# Altium schematic symbol library Altium_Box_Header.SchLib: 201 symbols (part 2 of 5)
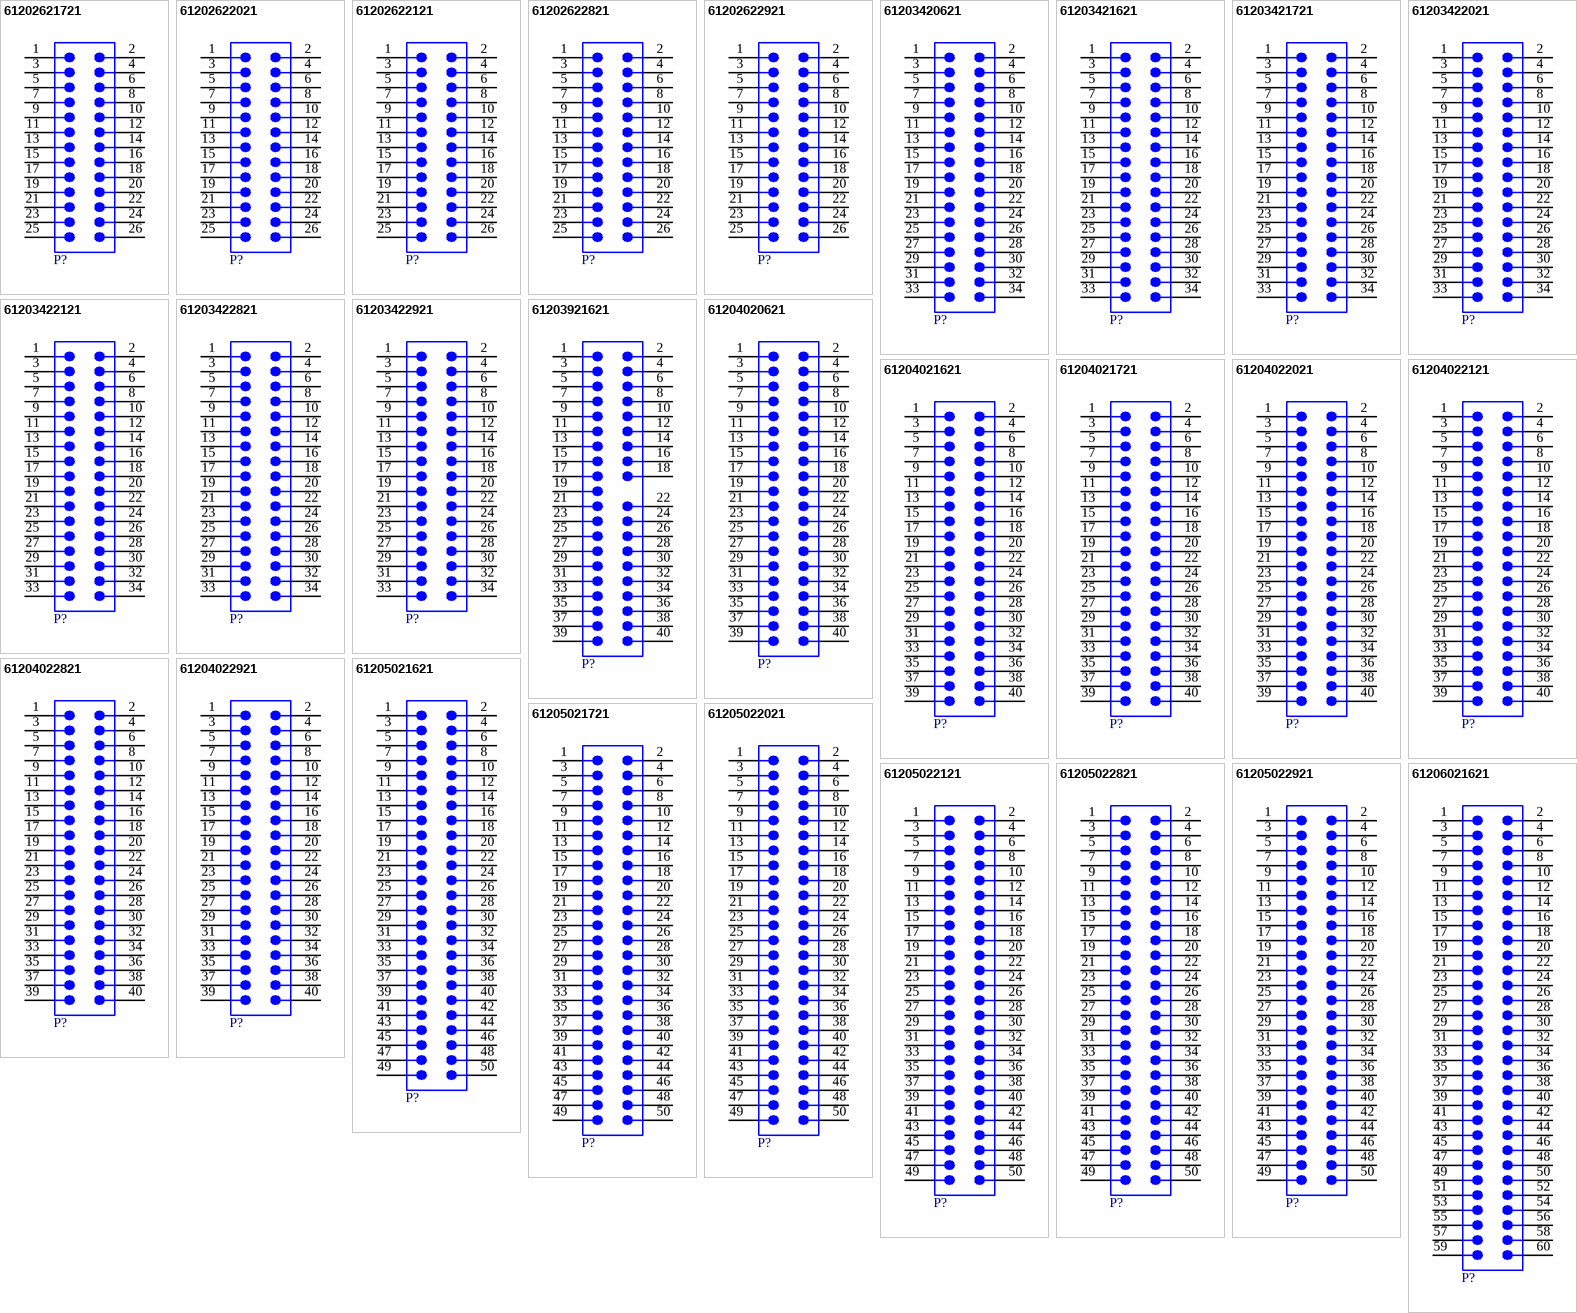
[diagram p6: symbols 61202621721 to 61206021621]

## 61203422021
designator P?  (value not drawn)
WR-BHD Male Box Header, THT Straight, pitch 2.54mm, 2 row, 34 pin; Manufacturer: Wurth Elektronik; Contact Resistance: 20mOhm; Insulation Resistance: 1000MOhm; Rated Current: 3A; Working Voltage: 250V; Withstanding Voltage: 500V; Manufacturer Part Number: 61203422021; Match Code: WR-BHD; ComponentLink1Description: Datasheet; ComponentLink1URL: https://www.we-online.com/redexpert/spec/61203422021?ad; Mount: Through Hole; Operating Temperature Max: 105°C; Operating Temperature Min: -40°C; Packaging: Tray; Length: 62.68mm; Width: 8.3mm; Height: 24.5mm; Gender: Male; Number of Pins: 34; Number of Rows: 2; Orientation: Straight; Pitch: 2.54mm; Supplier 1 URL: N/A; Supplier 2 URL: N/A; Supplier 3 URL: N/A; Supplier 1: Mouser; Supplier 1 Part Number: N/A; Supplier 2: Digi-Key; Supplier 2 Part Number: N/A; Supplier 3: thegioiic; Supplier 3 Part Number: N/A; LCSC Part #: N/A
footprint 61203422021
pins: 1, 2, 3, 4, 5, 6, 7, 8, 9, 10, 11, 12, 13, 14, 15, 16, 17, 18, 19, 20, 21, 22, 23, 24, 25, 26, 27, 28, 29, 30, 31, 32, 33, 34

## 61203422121
designator P?  (value not drawn)
WR-BHD Male Box Header, THT Right Angle, pitch 2.54mm, 2 row, 34 pin; Manufacturer: Wurth Elektronik; Contact Resistance: 20mOhm; Insulation Resistance: 1000MOhm; Rated Current: 3A; Working Voltage: 250V; Withstanding Voltage: 500V; Manufacturer Part Number: 61203422121; Match Code: WR-BHD; ComponentLink1Description: Datasheet; ComponentLink1URL: https://www.we-online.com/redexpert/spec/61203422121?ad; Mount: Through Hole; Operating Temperature Max: 105°C; Operating Temperature Min: -40°C; Packaging: Tray; Length: 62.68mm; Width: 24.5mm; Height: 8.3mm; Gender: Male; Number of Pins: 34; Number of Rows: 2; Orientation: Right Angle; Pitch: 2.54mm; Supplier 1 URL: N/A; Supplier 2 URL: N/A; Supplier 3 URL: N/A; Supplier 1: Mouser; Supplier 1 Part Number: N/A; Supplier 2: Digi-Key; Supplier 2 Part Number: N/A; Supplier 3: thegioiic; Supplier 3 Part Number: N/A; LCSC Part #: N/A
footprint 61203422121
pins: 1, 2, 3, 4, 5, 6, 7, 8, 9, 10, 11, 12, 13, 14, 15, 16, 17, 18, 19, 20, 21, 22, 23, 24, 25, 26, 27, 28, 29, 30, 31, 32, 33, 34

## 61203422821
designator P?  (value not drawn)
WR-BHD Male Box Header, THT Straight, pitch 2.54mm, 2 row, 34 pin; Manufacturer: Wurth Elektronik; Contact Resistance: 20mOhm; Insulation Resistance: 1000MOhm; Rated Current: 3A; Working Voltage: 250V; Withstanding Voltage: 500V; Manufacturer Part Number: 61203422821; Match Code: WR-BHD; ComponentLink1Description: Datasheet; ComponentLink1URL: https://www.we-online.com/redexpert/spec/61203422821?ad; Mount: Through Hole; Operating Temperature Max: 105°C; Operating Temperature Min: -40°C; Packaging: Tray; Length: 62.68mm; Width: 8.3mm; Height: 27.8mm; Gender: Male; Number of Pins: 34; Number of Rows: 2; Orientation: Straight; Pitch: 2.54mm; Supplier 1 URL: N/A; Supplier 2 URL: N/A; Supplier 3 URL: N/A; Supplier 1: Mouser; Supplier 1 Part Number: N/A; Supplier 2: Digi-Key; Supplier 2 Part Number: N/A; Supplier 3: thegioiic; Supplier 3 Part Number: N/A; LCSC Part #: N/A
footprint 61203422821
pins: 1, 2, 3, 4, 5, 6, 7, 8, 9, 10, 11, 12, 13, 14, 15, 16, 17, 18, 19, 20, 21, 22, 23, 24, 25, 26, 27, 28, 29, 30, 31, 32, 33, 34

## 61203422921
designator P?  (value not drawn)
WR-BHD Male Box Header, THT Right Angle, pitch 2.54mm, 2 row, 34 pin; Manufacturer: Wurth Elektronik; Contact Resistance: 20mOhm; Insulation Resistance: 1000MOhm; Rated Current: 3A; Working Voltage: 250V; Withstanding Voltage: 500V; Manufacturer Part Number: 61203422921; Match Code: WR-BHD; ComponentLink1Description: Datasheet; ComponentLink1URL: https://www.we-online.com/redexpert/spec/61203422921?ad; Mount: Through Hole; Operating Temperature Max: 105°C; Operating Temperature Min: -40°C; Packaging: Tray; Length: 62.68mm; Width: 27.8mm; Height: 8.3mm; Gender: Male; Number of Pins: 34; Number of Rows: 2; Orientation: Right Angle; Pitch: 2.54mm; Supplier 1 URL: N/A; Supplier 2 URL: N/A; Supplier 3 URL: N/A; Supplier 1: Mouser; Supplier 1 Part Number: N/A; Supplier 2: Digi-Key; Supplier 2 Part Number: N/A; Supplier 3: thegioiic; Supplier 3 Part Number: N/A; LCSC Part #: N/A
footprint 61203422921
pins: 1, 2, 3, 4, 5, 6, 7, 8, 9, 10, 11, 12, 13, 14, 15, 16, 17, 18, 19, 20, 21, 22, 23, 24, 25, 26, 27, 28, 29, 30, 31, 32, 33, 34

## 61203921621
designator P?  (value not drawn)
WR-BHD Male Box Header, THT Straight, pitch 2.54mm, 2 row, 39 pin; Manufacturer: Wurth Elektronik; Contact Resistance: 20mOhm; Insulation Resistance: 1000MOhm; Rated Current: 3A; Working Voltage: 250V; Withstanding Voltage: 500V; Manufacturer Part Number: 61203921621; Match Code: WR-BHD; ComponentLink1Description: Datasheet; ComponentLink1URL: https://www.we-online.com/redexpert/spec/61203921621?ad; Mount: Through Hole; Operating Temperature Max: 105°C; Operating Temperature Min: -40°C; Packaging: Tray; Length: 58.46mm; Width: 9.1mm; Height: 9.1mm; Gender: Male; Number of Pins: 39; Number of Rows: 2; Orientation: Straight; Pitch: 2.54mm; Supplier 1 URL: N/A; Supplier 2 URL: N/A; Supplier 3 URL: N/A; Supplier 1: Mouser; Supplier 1 Part Number: N/A; Supplier 2: Digi-Key; Supplier 2 Part Number: N/A; Supplier 3: thegioiic; Supplier 3 Part Number: N/A; LCSC Part #: N/A
footprint 61203921621
pins: 1, 2, 3, 4, 5, 6, 7, 8, 9, 10, 11, 12, 13, 14, 15, 16, 17, 18, 19, 21, 22, 23, 24, 25, 26, 27, 28, 29, 30, 31, 32, 33, 34, 35, 36, 37, 38, 39, 40

## 61204020621
designator P?  (value not drawn)
WR-BHD Male Box Header, SMT Straight, pitch 2.54mm, 2 row, 40 pin; Manufacturer: Wurth Elektronik; Contact Resistance: 20mOhm; Insulation Resistance: 1000MOhm; Rated Current: 3A; Working Voltage: 250V; Withstanding Voltage: 500V; Manufacturer Part Number: 61204020621; Match Code: WR-BHD; ComponentLink1Description: Datasheet; ComponentLink1URL: https://www.we-online.com/redexpert/spec/61204020621?ad; Mount: Surface Mount; Operating Temperature Max: 125°C; Operating Temperature Min: -40°C; Packaging: Tube; Length: 58.3mm; Width: 8.8mm; Height: 9.1mm; Gender: Male; Number of Pins: 40; Number of Rows: 2; Orientation: Straight; Pitch: 2.54mm; Supplier 1 URL: N/A; Supplier 2 URL: N/A; Supplier 3 URL: N/A; Supplier 1: Mouser; Supplier 1 Part Number: N/A; Supplier 2: Digi-Key; Supplier 2 Part Number: N/A; Supplier 3: thegioiic; Supplier 3 Part Number: N/A; LCSC Part #: N/A
footprint 61204020621
pins: 1, 2, 3, 4, 5, 6, 7, 8, 9, 10, 11, 12, 13, 14, 15, 16, 17, 18, 19, 20, 21, 22, 23, 24, 25, 26, 27, 28, 29, 30, 31, 32, 33, 34, 35, 36, 37, 38, 39, 40

## 61204021621
designator P?  (value not drawn)
WR-BHD Male Box Header, THT Straight, pitch 2.54mm, 2 row, 40 pin; Manufacturer: Wurth Elektronik; Contact Resistance: 20mOhm; Insulation Resistance: 1000MOhm; Rated Current: 3A; Working Voltage: 250V; Withstanding Voltage: 500V; Manufacturer Part Number: 61204021621; Match Code: WR-BHD; ComponentLink1Description: Datasheet; ComponentLink1URL: https://www.we-online.com/redexpert/spec/61204021621?ad; Mount: Through Hole; Operating Temperature Max: 105°C; Operating Temperature Min: -40°C; Packaging: Tray; Length: 58.46mm; Width: 9.1mm; Height: 9.1mm; Gender: Male; Number of Pins: 40; Number of Rows: 2; Orientation: Straight; Pitch: 2.54mm; Supplier 1 URL: N/A; Supplier 2 URL: N/A; Supplier 3 URL: N/A; Supplier 1: Mouser; Supplier 1 Part Number: N/A; Supplier 2: Digi-Key; Supplier 2 Part Number: N/A; Supplier 3: thegioiic; Supplier 3 Part Number: N/A; LCSC Part #: N/A
footprint 61204021621
pins: 1, 2, 3, 4, 5, 6, 7, 8, 9, 10, 11, 12, 13, 14, 15, 16, 17, 18, 19, 20, 21, 22, 23, 24, 25, 26, 27, 28, 29, 30, 31, 32, 33, 34, 35, 36, 37, 38, 39, 40

## 61204021721
designator P?  (value not drawn)
WR-BHD Male Box Header, THT Right Angle, pitch 2.54mm, 2 row, 40 pin; Manufacturer: Wurth Elektronik; Contact Resistance: 20mOhm; Insulation Resistance: 1000MOhm; Rated Current: 3A; Working Voltage: 250V; Withstanding Voltage: 500V; Manufacturer Part Number: 61204021721; Match Code: WR-BHD; ComponentLink1Description: Datasheet; ComponentLink1URL: https://www.we-online.com/redexpert/spec/61204021721?ad; Mount: Through Hole; Operating Temperature Max: 105°C; Operating Temperature Min: -40°C; Packaging: Tray; Length: 58.46mm; Width: 13.23mm; Height: 9.1mm; Gender: Male; Number of Pins: 40; Number of Rows: 2; Orientation: Right Angle; Pitch: 2.54mm; Supplier 1 URL: N/A; Supplier 2 URL: N/A; Supplier 3 URL: N/A; Supplier 1: Mouser; Supplier 1 Part Number: N/A; Supplier 2: Digi-Key; Supplier 2 Part Number: N/A; Supplier 3: thegioiic; Supplier 3 Part Number: N/A; LCSC Part #: N/A
footprint 61204021721
pins: 1, 2, 3, 4, 5, 6, 7, 8, 9, 10, 11, 12, 13, 14, 15, 16, 17, 18, 19, 20, 21, 22, 23, 24, 25, 26, 27, 28, 29, 30, 31, 32, 33, 34, 35, 36, 37, 38, 39, 40

## 61204022021
designator P?  (value not drawn)
WR-BHD Male Box Header, THT Straight, pitch 2.54mm, 2 row, 40 pin; Manufacturer: Wurth Elektronik; Contact Resistance: 20mOhm; Insulation Resistance: 1000MOhm; Rated Current: 3A; Working Voltage: 250V; Withstanding Voltage: 500V; Manufacturer Part Number: 61204022021; Match Code: WR-BHD; ComponentLink1Description: Datasheet; ComponentLink1URL: https://www.we-online.com/redexpert/spec/61204022021?ad; Mount: Through Hole; Operating Temperature Max: 105°C; Operating Temperature Min: -40°C; Packaging: Tray; Length: 70.3mm; Width: 8.3mm; Height: 24.5mm; Gender: Male; Number of Pins: 40; Number of Rows: 2; Orientation: Straight; Pitch: 2.54mm; Supplier 1 URL: N/A; Supplier 2 URL: N/A; Supplier 3 URL: N/A; Supplier 1: Mouser; Supplier 1 Part Number: N/A; Supplier 2: Digi-Key; Supplier 2 Part Number: N/A; Supplier 3: thegioiic; Supplier 3 Part Number: N/A; LCSC Part #: N/A
footprint 61204022021
pins: 1, 2, 3, 4, 5, 6, 7, 8, 9, 10, 11, 12, 13, 14, 15, 16, 17, 18, 19, 20, 21, 22, 23, 24, 25, 26, 27, 28, 29, 30, 31, 32, 33, 34, 35, 36, 37, 38, 39, 40

## 61204022121
designator P?  (value not drawn)
WR-BHD Male Box Header, THT Right Angle, pitch 2.54mm, 2 row, 40 pin; Manufacturer: Wurth Elektronik; Contact Resistance: 20mOhm; Insulation Resistance: 1000MOhm; Rated Current: 3A; Working Voltage: 250V; Withstanding Voltage: 500V; Manufacturer Part Number: 61204022121; Match Code: WR-BHD; ComponentLink1Description: Datasheet; ComponentLink1URL: https://www.we-online.com/redexpert/spec/61204022121?ad; Mount: Through Hole; Operating Temperature Max: 105°C; Operating Temperature Min: -40°C; Packaging: Tray; Length: 70.3mm; Width: 24.5mm; Height: 8.3mm; Gender: Male; Number of Pins: 40; Number of Rows: 2; Orientation: Right Angle; Pitch: 2.54mm; Supplier 1 URL: N/A; Supplier 2 URL: N/A; Supplier 3 URL: N/A; Supplier 1: Mouser; Supplier 1 Part Number: N/A; Supplier 2: Digi-Key; Supplier 2 Part Number: N/A; Supplier 3: thegioiic; Supplier 3 Part Number: N/A; LCSC Part #: N/A
footprint 61204022121
pins: 1, 2, 3, 4, 5, 6, 7, 8, 9, 10, 11, 12, 13, 14, 15, 16, 17, 18, 19, 20, 21, 22, 23, 24, 25, 26, 27, 28, 29, 30, 31, 32, 33, 34, 35, 36, 37, 38, 39, 40

## 61204022821
designator P?  (value not drawn)
WR-BHD Male Box Header, THT Straight, pitch 2.54mm, 2 row, 40 pin; Manufacturer: Wurth Elektronik; Contact Resistance: 20mOhm; Insulation Resistance: 1000MOhm; Rated Current: 3A; Working Voltage: 250V; Withstanding Voltage: 500V; Manufacturer Part Number: 61204022821; Match Code: WR-BHD; ComponentLink1Description: Datasheet; ComponentLink1URL: https://www.we-online.com/redexpert/spec/61204022821?ad; Mount: Through Hole; Operating Temperature Max: 105°C; Operating Temperature Min: -40°C; Packaging: Tray; Length: 70.3mm; Width: 8.3mm; Height: 27.8mm; Gender: Male; Number of Pins: 40; Number of Rows: 2; Orientation: Straight; Pitch: 2.54mm; Supplier 1 URL: N/A; Supplier 2 URL: N/A; Supplier 3 URL: N/A; Supplier 1: Mouser; Supplier 1 Part Number: N/A; Supplier 2: Digi-Key; Supplier 2 Part Number: N/A; Supplier 3: thegioiic; Supplier 3 Part Number: N/A; LCSC Part #: N/A
footprint 61204022821
pins: 1, 2, 3, 4, 5, 6, 7, 8, 9, 10, 11, 12, 13, 14, 15, 16, 17, 18, 19, 20, 21, 22, 23, 24, 25, 26, 27, 28, 29, 30, 31, 32, 33, 34, 35, 36, 37, 38, 39, 40

## 61204022921
designator P?  (value not drawn)
WR-BHD Male Box Header, THT Right Angle, pitch 2.54mm, 2 row, 40 pin; Manufacturer: Wurth Elektronik; Contact Resistance: 20mOhm; Insulation Resistance: 1000MOhm; Rated Current: 3A; Working Voltage: 250V; Withstanding Voltage: 500V; Manufacturer Part Number: 61204022921; Match Code: WR-BHD; ComponentLink1Description: Datasheet; ComponentLink1URL: https://www.we-online.com/redexpert/spec/61204022921?ad; Mount: Through Hole; Operating Temperature Max: 105°C; Operating Temperature Min: -40°C; Packaging: Tray; Length: 70.3mm; Width: 27.8mm; Height: 8.3mm; Gender: Male; Number of Pins: 40; Number of Rows: 2; Orientation: Right Angle; Pitch: 2.54mm; Supplier 1 URL: N/A; Supplier 2 URL: N/A; Supplier 3 URL: N/A; Supplier 1: Mouser; Supplier 1 Part Number: N/A; Supplier 2: Digi-Key; Supplier 2 Part Number: N/A; Supplier 3: thegioiic; Supplier 3 Part Number: N/A; LCSC Part #: N/A
footprint 61204022921
pins: 1, 2, 3, 4, 5, 6, 7, 8, 9, 10, 11, 12, 13, 14, 15, 16, 17, 18, 19, 20, 21, 22, 23, 24, 25, 26, 27, 28, 29, 30, 31, 32, 33, 34, 35, 36, 37, 38, 39, 40

## 61205021621
designator P?  (value not drawn)
WR-BHD Male Box Header, THT Straight, pitch 2.54mm, 2 row, 50 pin; Manufacturer: Wurth Elektronik; Contact Resistance: 20mOhm; Insulation Resistance: 1000MOhm; Rated Current: 3A; Working Voltage: 250V; Withstanding Voltage: 500V; Manufacturer Part Number: 61205021621; Match Code: WR-BHD; ComponentLink1Description: Datasheet; ComponentLink1URL: https://www.we-online.com/redexpert/spec/61205021621?ad; Mount: Through Hole; Operating Temperature Max: 105°C; Operating Temperature Min: -40°C; Packaging: Tray; Length: 71.16mm; Width: 9.1mm; Height: 9.1mm; Gender: Male; Number of Pins: 50; Number of Rows: 2; Orientation: Straight; Pitch: 2.54mm; Supplier 1 URL: N/A; Supplier 2 URL: N/A; Supplier 3 URL: N/A; Supplier 1: Mouser; Supplier 1 Part Number: N/A; Supplier 2: Digi-Key; Supplier 2 Part Number: N/A; Supplier 3: thegioiic; Supplier 3 Part Number: N/A; LCSC Part #: N/A
footprint 61205021621
pins: 1, 2, 3, 4, 5, 6, 7, 8, 9, 10, 11, 12, 13, 14, 15, 16, 17, 18, 19, 20, 21, 22, 23, 24, 25, 26, 27, 28, 29, 30, 31, 32, 33, 34, 35, 36, 37, 38, 39, 40, 41, 42, 43, 44, 45, 46, 47, 48, 49, 50

## 61205021721
designator P?  (value not drawn)
WR-BHD Male Box Header, THT Right Angle, pitch 2.54mm, 2 row, 50 pin; Manufacturer: Wurth Elektronik; Contact Resistance: 20mOhm; Insulation Resistance: 1000MOhm; Rated Current: 3A; Working Voltage: 250V; Withstanding Voltage: 500V; Manufacturer Part Number: 61205021721; Match Code: WR-BHD; ComponentLink1Description: Datasheet; ComponentLink1URL: https://www.we-online.com/redexpert/spec/61205021721?ad; Mount: Through Hole; Operating Temperature Max: 105°C; Operating Temperature Min: -40°C; Packaging: Tray; Length: 71.16mm; Width: 13.23mm; Height: 9.1mm; Gender: Male; Number of Pins: 50; Number of Rows: 2; Orientation: Right Angle; Pitch: 2.54mm; Supplier 1 URL: N/A; Supplier 2 URL: N/A; Supplier 3 URL: N/A; Supplier 1: Mouser; Supplier 1 Part Number: N/A; Supplier 2: Digi-Key; Supplier 2 Part Number: N/A; Supplier 3: thegioiic; Supplier 3 Part Number: N/A; LCSC Part #: N/A
footprint 61205021721
pins: 1, 2, 3, 4, 5, 6, 7, 8, 9, 10, 11, 12, 13, 14, 15, 16, 17, 18, 19, 20, 21, 22, 23, 24, 25, 26, 27, 28, 29, 30, 31, 32, 33, 34, 35, 36, 37, 38, 39, 40, 41, 42, 43, 44, 45, 46, 47, 48, 49, 50

## 61205022021
designator P?  (value not drawn)
WR-BHD Male Box Header, THT Straight, pitch 2.54mm, 2 row, 50 pin; Manufacturer: Wurth Elektronik; Contact Resistance: 20mOhm; Insulation Resistance: 1000MOhm; Rated Current: 3A; Working Voltage: 250V; Withstanding Voltage: 500V; Manufacturer Part Number: 61205022021; Match Code: WR-BHD; ComponentLink1Description: Datasheet; ComponentLink1URL: https://www.we-online.com/redexpert/spec/61205022021?ad; Mount: Through Hole; Operating Temperature Max: 105°C; Operating Temperature Min: -40°C; Packaging: Tray; Length: 83mm; Width: 8.3mm; Height: 24.5mm; Gender: Male; Number of Pins: 50; Number of Rows: 2; Orientation: Straight; Pitch: 2.54mm; Supplier 1 URL: N/A; Supplier 2 URL: N/A; Supplier 3 URL: N/A; Supplier 1: Mouser; Supplier 1 Part Number: N/A; Supplier 2: Digi-Key; Supplier 2 Part Number: N/A; Supplier 3: thegioiic; Supplier 3 Part Number: N/A; LCSC Part #: N/A
footprint 61205022021
pins: 1, 2, 3, 4, 5, 6, 7, 8, 9, 10, 11, 12, 13, 14, 15, 16, 17, 18, 19, 20, 21, 22, 23, 24, 25, 26, 27, 28, 29, 30, 31, 32, 33, 34, 35, 36, 37, 38, 39, 40, 41, 42, 43, 44, 45, 46, 47, 48, 49, 50

## 61205022121
designator P?  (value not drawn)
WR-BHD Male Box Header, THT Right Angle, pitch 2.54mm, 2 row, 50 pin; Manufacturer: Wurth Elektronik; Contact Resistance: 20mOhm; Insulation Resistance: 1000MOhm; Rated Current: 3A; Working Voltage: 250V; Withstanding Voltage: 500V; Manufacturer Part Number: 61205022121; Match Code: WR-BHD; ComponentLink1Description: Datasheet; ComponentLink1URL: https://www.we-online.com/redexpert/spec/61205022121?ad; Mount: Through Hole; Operating Temperature Max: 105°C; Operating Temperature Min: -40°C; Packaging: Tray; Length: 83mm; Width: 24.5mm; Height: 8.3mm; Gender: Male; Number of Pins: 50; Number of Rows: 2; Orientation: Right Angle; Pitch: 2.54mm; Supplier 1 URL: N/A; Supplier 2 URL: N/A; Supplier 3 URL: N/A; Supplier 1: Mouser; Supplier 1 Part Number: N/A; Supplier 2: Digi-Key; Supplier 2 Part Number: N/A; Supplier 3: thegioiic; Supplier 3 Part Number: N/A; LCSC Part #: N/A
footprint 61205022121
pins: 1, 2, 3, 4, 5, 6, 7, 8, 9, 10, 11, 12, 13, 14, 15, 16, 17, 18, 19, 20, 21, 22, 23, 24, 25, 26, 27, 28, 29, 30, 31, 32, 33, 34, 35, 36, 37, 38, 39, 40, 41, 42, 43, 44, 45, 46, 47, 48, 49, 50

## 61205022821
designator P?  (value not drawn)
WR-BHD Male Box Header, THT Straight, pitch 2.54mm, 2 row, 50 pin; Manufacturer: Wurth Elektronik; Contact Resistance: 20mOhm; Insulation Resistance: 1000MOhm; Rated Current: 3A; Working Voltage: 250V; Withstanding Voltage: 500V; Manufacturer Part Number: 61205022821; Match Code: WR-BHD; ComponentLink1Description: Datasheet; ComponentLink1URL: https://www.we-online.com/redexpert/spec/61205022821?ad; Mount: Through Hole; Operating Temperature Max: 105°C; Operating Temperature Min: -40°C; Packaging: Tray; Length: 83mm; Width: 8.3mm; Height: 27.8mm; Gender: Male; Number of Pins: 50; Number of Rows: 2; Orientation: Straight; Pitch: 2.54mm; Supplier 1 URL: N/A; Supplier 2 URL: N/A; Supplier 3 URL: N/A; Supplier 1: Mouser; Supplier 1 Part Number: N/A; Supplier 2: Digi-Key; Supplier 2 Part Number: N/A; Supplier 3: thegioiic; Supplier 3 Part Number: N/A; LCSC Part #: N/A
footprint 61205022821
pins: 1, 2, 3, 4, 5, 6, 7, 8, 9, 10, 11, 12, 13, 14, 15, 16, 17, 18, 19, 20, 21, 22, 23, 24, 25, 26, 27, 28, 29, 30, 31, 32, 33, 34, 35, 36, 37, 38, 39, 40, 41, 42, 43, 44, 45, 46, 47, 48, 49, 50

## 61205022921
designator P?  (value not drawn)
WR-BHD Male Box Header, THT Right Angle, pitch 2.54mm, 2 row, 50 pin; Manufacturer: Wurth Elektronik; Contact Resistance: 20mOhm; Insulation Resistance: 1000MOhm; Rated Current: 3A; Working Voltage: 250V; Withstanding Voltage: 500V; Manufacturer Part Number: 61205022921; Match Code: WR-BHD; ComponentLink1Description: Datasheet; ComponentLink1URL: https://www.we-online.com/redexpert/spec/61205022921?ad; Mount: Through Hole; Operating Temperature Max: 105°C; Operating Temperature Min: -40°C; Packaging: Tray; Length: 83mm; Width: 27.8mm; Height: 8.3mm; Gender: Male; Number of Pins: 50; Number of Rows: 2; Orientation: Right Angle; Pitch: 2.54mm; Supplier 1 URL: N/A; Supplier 2 URL: N/A; Supplier 3 URL: N/A; Supplier 1: Mouser; Supplier 1 Part Number: N/A; Supplier 2: Digi-Key; Supplier 2 Part Number: N/A; Supplier 3: thegioiic; Supplier 3 Part Number: N/A; LCSC Part #: N/A
footprint 61205022921
pins: 1, 2, 3, 4, 5, 6, 7, 8, 9, 10, 11, 12, 13, 14, 15, 16, 17, 18, 19, 20, 21, 22, 23, 24, 25, 26, 27, 28, 29, 30, 31, 32, 33, 34, 35, 36, 37, 38, 39, 40, 41, 42, 43, 44, 45, 46, 47, 48, 49, 50

## 61206021621
designator P?  (value not drawn)
WR-BHD Male Box Header, THT Straight, pitch 2.54mm, 2 row, 60 pin; Manufacturer: Wurth Elektronik; Contact Resistance: 20mOhm; Insulation Resistance: 1000MOhm; Rated Current: 3A; Working Voltage: 250V; Withstanding Voltage: 500V; Manufacturer Part Number: 61206021621; Match Code: WR-BHD; ComponentLink1Description: Datasheet; ComponentLink1URL: https://www.we-online.com/redexpert/spec/61206021621?ad; Mount: Through Hole; Operating Temperature Max: 105°C; Operating Temperature Min: -40°C; Packaging: Tray; Length: 83.86mm; Width: 9.1mm; Height: 9.1mm; Gender: Male; Number of Pins: 60; Number of Rows: 2; Orientation: Straight; Pitch: 2.54mm; Supplier 1 URL: N/A; Supplier 2 URL: N/A; Supplier 3 URL: N/A; Supplier 1: Mouser; Supplier 1 Part Number: N/A; Supplier 2: Digi-Key; Supplier 2 Part Number: N/A; Supplier 3: thegioiic; Supplier 3 Part Number: N/A; LCSC Part #: N/A
footprint 61206021621
pins: 1, 2, 3, 4, 5, 6, 7, 8, 9, 10, 11, 12, 13, 14, 15, 16, 17, 18, 19, 20, 21, 22, 23, 24, 25, 26, 27, 28, 29, 30, 31, 32, 33, 34, 35, 36, 37, 38, 39, 40, 41, 42, 43, 44, 45, 46, 47, 48, 49, 50, 51, 52, 53, 54, 55, 56, 57, 58, 59, 60

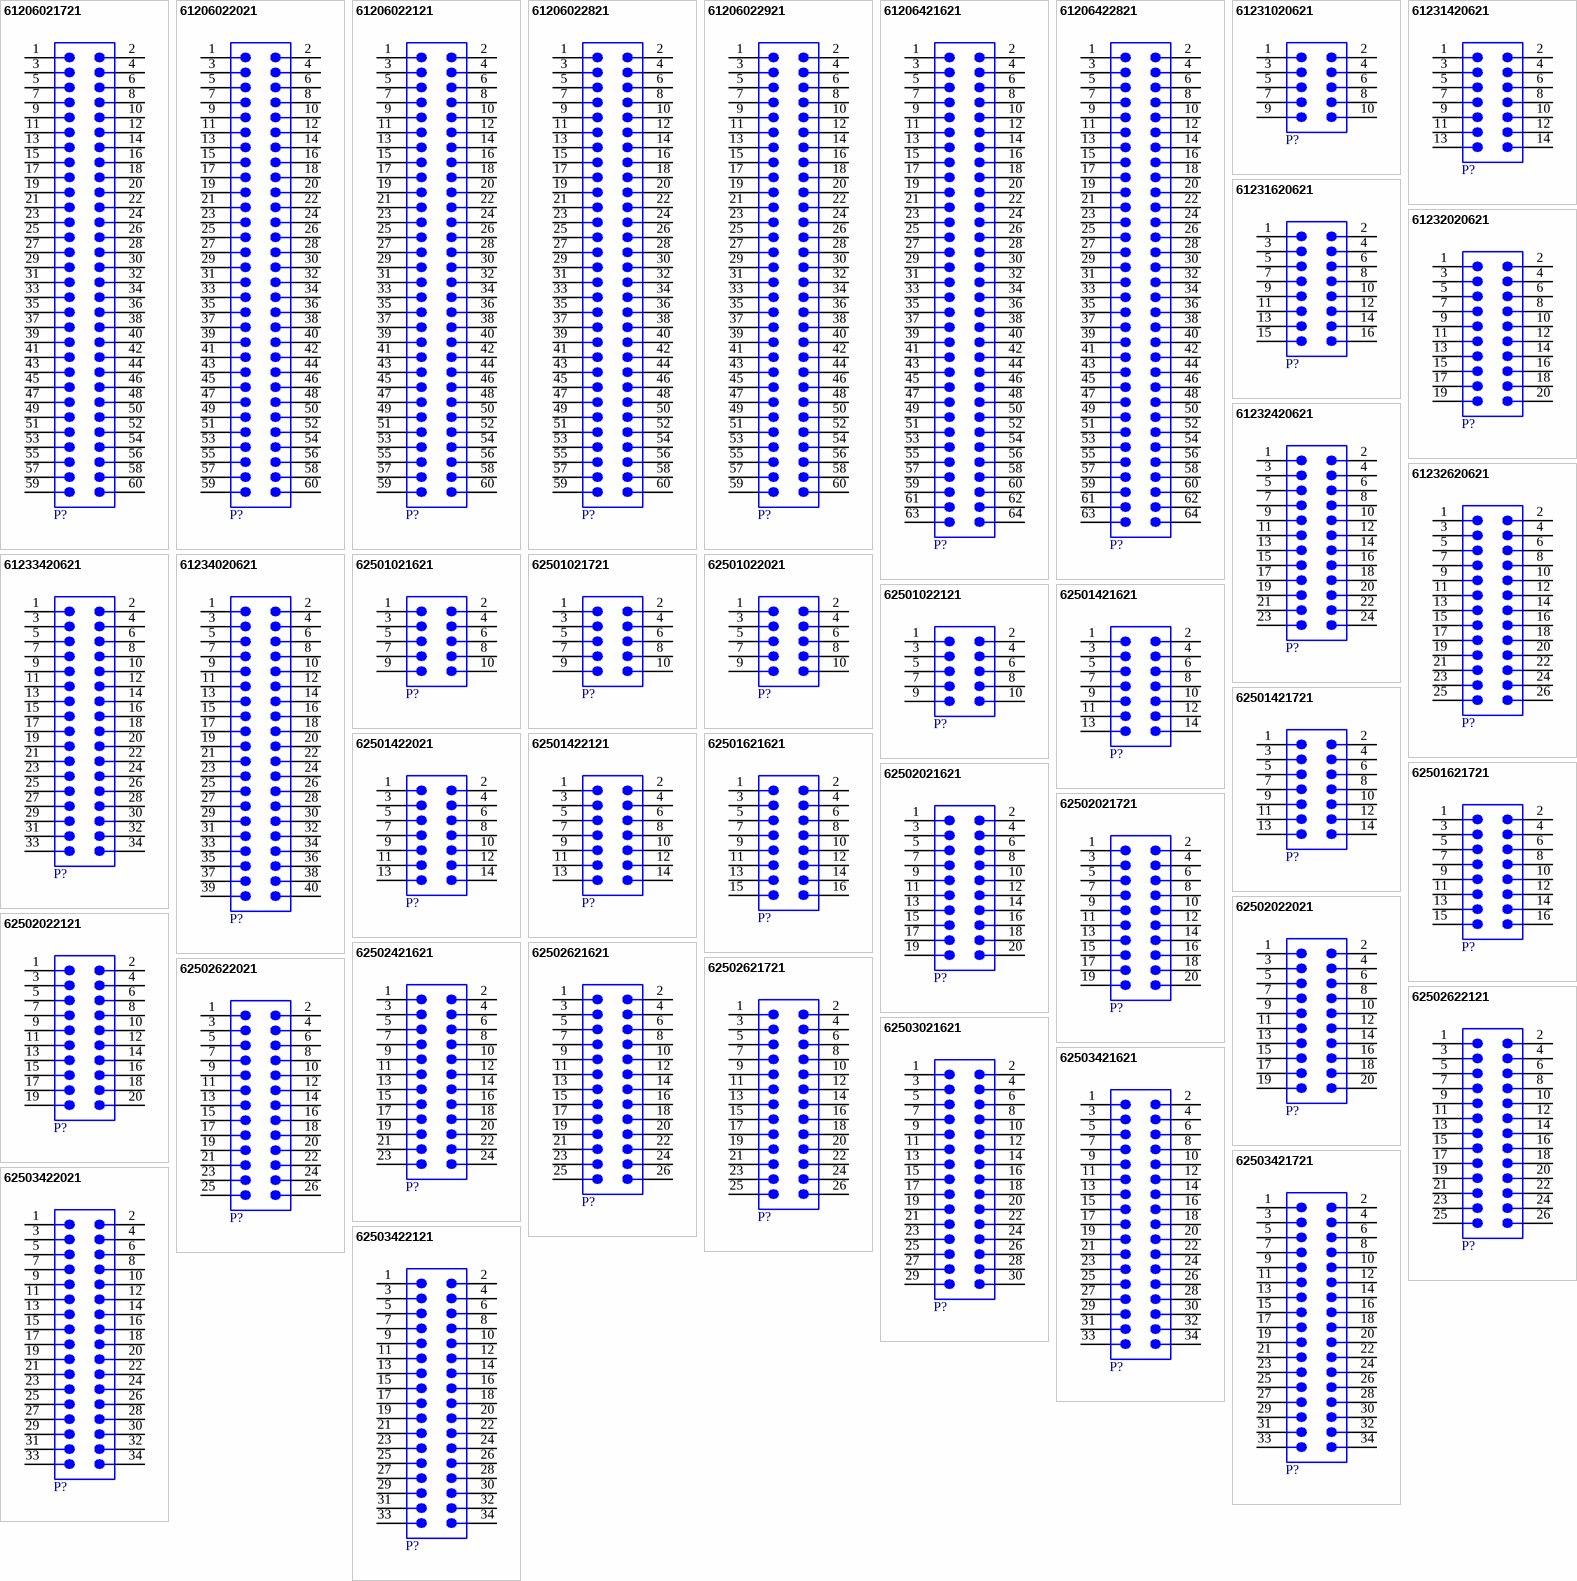
[diagram p2: symbols 61206021721 to 62503422121]

## 61206021721
designator P?  (value not drawn)
WR-BHD Male Box Header, THT Right Angle, pitch 2.54mm, 2 row, 60 pin; Manufacturer: Wurth Elektronik; Contact Resistance: 20mOhm; Insulation Resistance: 1000MOhm; Rated Current: 3A; Working Voltage: 250V; Withstanding Voltage: 500V; Manufacturer Part Number: 61206021721; Match Code: WR-BHD; ComponentLink1Description: Datasheet; ComponentLink1URL: https://www.we-online.com/redexpert/spec/61206021721?ad; Mount: Through Hole; Operating Temperature Max: 105°C; Operating Temperature Min: -40°C; Packaging: Tray; Length: 83.86mm; Width: 13.23mm; Height: 9.1mm; Gender: Male; Number of Pins: 60; Number of Rows: 2; Orientation: Right Angle; Pitch: 2.54mm; Supplier 1 URL: N/A; Supplier 2 URL: N/A; Supplier 3 URL: N/A; Supplier 1: Mouser; Supplier 1 Part Number: N/A; Supplier 2: Digi-Key; Supplier 2 Part Number: N/A; Supplier 3: thegioiic; Supplier 3 Part Number: N/A; LCSC Part #: N/A
footprint 61206021721
pins: 1, 2, 3, 4, 5, 6, 7, 8, 9, 10, 11, 12, 13, 14, 15, 16, 17, 18, 19, 20, 21, 22, 23, 24, 25, 26, 27, 28, 29, 30, 31, 32, 33, 34, 35, 36, 37, 38, 39, 40, 41, 42, 43, 44, 45, 46, 47, 48, 49, 50, 51, 52, 53, 54, 55, 56, 57, 58, 59, 60

## 61206022021
designator P?  (value not drawn)
WR-BHD Male Box Header, THT Straight, pitch 2.54mm, 2 row, 60 pin; Manufacturer: Wurth Elektronik; Contact Resistance: 20mOhm; Insulation Resistance: 1000MOhm; Rated Current: 3A; Working Voltage: 250V; Withstanding Voltage: 500V; Manufacturer Part Number: 61206022021; Match Code: WR-BHD; ComponentLink1Description: Datasheet; ComponentLink1URL: https://www.we-online.com/redexpert/spec/61206022021?ad; Mount: Through Hole; Operating Temperature Max: 105°C; Operating Temperature Min: -40°C; Packaging: Tray; Length: 95.7mm; Width: 8.3mm; Height: 24.5mm; Gender: Male; Number of Pins: 60; Number of Rows: 2; Orientation: Straight; Pitch: 2.54mm; Supplier 1 URL: N/A; Supplier 2 URL: N/A; Supplier 3 URL: N/A; Supplier 1: Mouser; Supplier 1 Part Number: N/A; Supplier 2: Digi-Key; Supplier 2 Part Number: N/A; Supplier 3: thegioiic; Supplier 3 Part Number: N/A; LCSC Part #: N/A
footprint 61206022021
pins: 1, 2, 3, 4, 5, 6, 7, 8, 9, 10, 11, 12, 13, 14, 15, 16, 17, 18, 19, 20, 21, 22, 23, 24, 25, 26, 27, 28, 29, 30, 31, 32, 33, 34, 35, 36, 37, 38, 39, 40, 41, 42, 43, 44, 45, 46, 47, 48, 49, 50, 51, 52, 53, 54, 55, 56, 57, 58, 59, 60

## 61206022121
designator P?  (value not drawn)
WR-BHD Male Box Header, THT Right Angle, pitch 2.54mm, 2 row, 60 pin; Manufacturer: Wurth Elektronik; Contact Resistance: 20mOhm; Insulation Resistance: 1000MOhm; Rated Current: 3A; Working Voltage: 250V; Withstanding Voltage: 500V; Manufacturer Part Number: 61206022121; Match Code: WR-BHD; ComponentLink1Description: Datasheet; ComponentLink1URL: https://www.we-online.com/redexpert/spec/61206022121?ad; Mount: Through Hole; Operating Temperature Max: 105°C; Operating Temperature Min: -40°C; Packaging: Tray; Length: 95.7mm; Width: 24.5mm; Height: 8.3mm; Gender: Male; Number of Pins: 60; Number of Rows: 2; Orientation: Right Angle; Pitch: 2.54mm; Supplier 1 URL: N/A; Supplier 2 URL: N/A; Supplier 3 URL: N/A; Supplier 1: Mouser; Supplier 1 Part Number: N/A; Supplier 2: Digi-Key; Supplier 2 Part Number: N/A; Supplier 3: thegioiic; Supplier 3 Part Number: N/A; LCSC Part #: N/A
footprint 61206022121
pins: 1, 2, 3, 4, 5, 6, 7, 8, 9, 10, 11, 12, 13, 14, 15, 16, 17, 18, 19, 20, 21, 22, 23, 24, 25, 26, 27, 28, 29, 30, 31, 32, 33, 34, 35, 36, 37, 38, 39, 40, 41, 42, 43, 44, 45, 46, 47, 48, 49, 50, 51, 52, 53, 54, 55, 56, 57, 58, 59, 60

## 61206022821
designator P?  (value not drawn)
WR-BHD Male Box Header, THT Straight, pitch 2.54mm, 2 row, 60 pin; Manufacturer: Wurth Elektronik; Contact Resistance: 20mOhm; Insulation Resistance: 1000MOhm; Rated Current: 3A; Working Voltage: 250V; Withstanding Voltage: 500V; Manufacturer Part Number: 61206022821; Match Code: WR-BHD; ComponentLink1Description: Datasheet; ComponentLink1URL: https://www.we-online.com/redexpert/spec/61206022821?ad; Mount: Through Hole; Operating Temperature Max: 105°C; Operating Temperature Min: -40°C; Packaging: Tray; Length: 95.7mm; Width: 8.3mm; Height: 27.8mm; Gender: Male; Number of Pins: 60; Number of Rows: 2; Orientation: Straight; Pitch: 2.54mm; Supplier 1 URL: N/A; Supplier 2 URL: N/A; Supplier 3 URL: N/A; Supplier 1: Mouser; Supplier 1 Part Number: N/A; Supplier 2: Digi-Key; Supplier 2 Part Number: N/A; Supplier 3: thegioiic; Supplier 3 Part Number: N/A; LCSC Part #: N/A
footprint 61206022821
pins: 1, 2, 3, 4, 5, 6, 7, 8, 9, 10, 11, 12, 13, 14, 15, 16, 17, 18, 19, 20, 21, 22, 23, 24, 25, 26, 27, 28, 29, 30, 31, 32, 33, 34, 35, 36, 37, 38, 39, 40, 41, 42, 43, 44, 45, 46, 47, 48, 49, 50, 51, 52, 53, 54, 55, 56, 57, 58, 59, 60

## 61206022921
designator P?  (value not drawn)
WR-BHD Male Box Header, THT Right Angle, pitch 2.54mm, 2 row, 60 pin; Manufacturer: Wurth Elektronik; Contact Resistance: 20mOhm; Insulation Resistance: 1000MOhm; Rated Current: 3A; Working Voltage: 250V; Withstanding Voltage: 500V; Manufacturer Part Number: 61206022921; Match Code: WR-BHD; ComponentLink1Description: Datasheet; ComponentLink1URL: https://www.we-online.com/redexpert/spec/61206022921?ad; Mount: Through Hole; Operating Temperature Max: 105°C; Operating Temperature Min: -40°C; Packaging: Tray; Length: 95.7mm; Width: 27.8mm; Height: 8.3mm; Gender: Male; Number of Pins: 60; Number of Rows: 2; Orientation: Right Angle; Pitch: 2.54mm; Supplier 1 URL: N/A; Supplier 2 URL: N/A; Supplier 3 URL: N/A; Supplier 1: Mouser; Supplier 1 Part Number: N/A; Supplier 2: Digi-Key; Supplier 2 Part Number: N/A; Supplier 3: thegioiic; Supplier 3 Part Number: N/A; LCSC Part #: N/A
footprint 61206022921
pins: 1, 2, 3, 4, 5, 6, 7, 8, 9, 10, 11, 12, 13, 14, 15, 16, 17, 18, 19, 20, 21, 22, 23, 24, 25, 26, 27, 28, 29, 30, 31, 32, 33, 34, 35, 36, 37, 38, 39, 40, 41, 42, 43, 44, 45, 46, 47, 48, 49, 50, 51, 52, 53, 54, 55, 56, 57, 58, 59, 60

## 61206421621
designator P?  (value not drawn)
WR-BHD Male Box Header, THT Straight, pitch 2.54mm, 2 row, 64 pin; Manufacturer: Wurth Elektronik; Contact Resistance: 20mOhm; Insulation Resistance: 1000MOhm; Rated Current: 3A; Working Voltage: 250V; Withstanding Voltage: 500V; Manufacturer Part Number: 61206421621; Match Code: WR-BHD; ComponentLink1Description: Datasheet; ComponentLink1URL: https://www.we-online.com/redexpert/spec/61206421621?ad; Mount: Through Hole; Operating Temperature Max: 105°C; Operating Temperature Min: -40°C; Packaging: Tray; Length: 88.94mm; Width: 9.1mm; Height: 9.1mm; Gender: Male; Number of Pins: 64; Number of Rows: 2; Orientation: Straight; Pitch: 2.54mm; Supplier 1 URL: N/A; Supplier 2 URL: N/A; Supplier 3 URL: N/A; Supplier 1: Mouser; Supplier 1 Part Number: N/A; Supplier 2: Digi-Key; Supplier 2 Part Number: N/A; Supplier 3: thegioiic; Supplier 3 Part Number: N/A; LCSC Part #: N/A
footprint 61206421621
pins: 1, 2, 3, 4, 5, 6, 7, 8, 9, 10, 11, 12, 13, 14, 15, 16, 17, 18, 19, 20, 21, 22, 23, 24, 25, 26, 27, 28, 29, 30, 31, 32, 33, 34, 35, 36, 37, 38, 39, 40, 41, 42, 43, 44, 45, 46, 47, 48, 49, 50, 51, 52, 53, 54, 55, 56, 57, 58, 59, 60, 61, 62, 63, 64

## 61206422821
designator P?  (value not drawn)
WR-BHD Male Box Header, THT Straight, pitch 2.54mm, 2 row, 64 pin; Manufacturer: Wurth Elektronik; Contact Resistance: 20mOhm; Insulation Resistance: 1000MOhm; Rated Current: 3A; Working Voltage: 250V; Withstanding Voltage: 500V; Manufacturer Part Number: 61206422821; Match Code: WR-BHD; ComponentLink1Description: Datasheet; ComponentLink1URL: https://www.we-online.com/redexpert/spec/61206422821?ad; Mount: Through Hole; Operating Temperature Max: 105°C; Operating Temperature Min: -40°C; Packaging: Tray; Length: 100.78mm; Width: 8.3mm; Height: 27.8mm; Gender: Male; Number of Pins: 64; Number of Rows: 2; Orientation: Straight; Pitch: 2.54mm; Supplier 1 URL: N/A; Supplier 2 URL: N/A; Supplier 3 URL: N/A; Supplier 1: Mouser; Supplier 1 Part Number: N/A; Supplier 2: Digi-Key; Supplier 2 Part Number: N/A; Supplier 3: thegioiic; Supplier 3 Part Number: N/A; LCSC Part #: N/A
footprint 61206422821
pins: 1, 2, 3, 4, 5, 6, 7, 8, 9, 10, 11, 12, 13, 14, 15, 16, 17, 18, 19, 20, 21, 22, 23, 24, 25, 26, 27, 28, 29, 30, 31, 32, 33, 34, 35, 36, 37, 38, 39, 40, 41, 42, 43, 44, 45, 46, 47, 48, 49, 50, 51, 52, 53, 54, 55, 56, 57, 58, 59, 60, 61, 62, 63, 64

## 61231020621
designator P?  (value not drawn)
WR-BHD Male Box Header, SMT Straight, pitch 2.54mm, 2 row, 10 pin; Manufacturer: Wurth Elektronik; Contact Resistance: 20mOhm; Insulation Resistance: 1000MOhm; Rated Current: 3A; Working Voltage: 250V; Withstanding Voltage: 500V; Manufacturer Part Number: 61231020621; Match Code: WR-BHD; ComponentLink1Description: Datasheet; ComponentLink1URL: https://www.we-online.com/redexpert/spec/61231020621?ad; Mount: Surface Mount; Operating Temperature Max: 125°C; Operating Temperature Min: -40°C; Packaging: Tape and Reel with Cap; Length: 20.5mm; Width: 9.1mm; Height: 9.1mm; Gender: Male; Number of Pins: 10; Number of Rows: 2; Orientation: Straight; Pitch: 2.54mm; Supplier 1 URL: N/A; Supplier 2 URL: N/A; Supplier 3 URL: N/A; Supplier 1: Mouser; Supplier 1 Part Number: N/A; Supplier 2: Digi-Key; Supplier 2 Part Number: N/A; Supplier 3: thegioiic; Supplier 3 Part Number: N/A; LCSC Part #: N/A
footprint 61231020621
pins: 1, 2, 3, 4, 5, 6, 7, 8, 9, 10

## 61231420621
designator P?  (value not drawn)
WR-BHD Male Box Header, SMT Straight, pitch 2.54mm, 2 row, 14 pin; Manufacturer: Wurth Elektronik; Contact Resistance: 20mOhm; Insulation Resistance: 1000MOhm; Rated Current: 3A; Working Voltage: 250V; Withstanding Voltage: 500V; Manufacturer Part Number: 61231420621; Match Code: WR-BHD; ComponentLink1Description: Datasheet; ComponentLink1URL: https://www.we-online.com/redexpert/spec/61231420621?ad; Mount: Surface Mount; Operating Temperature Max: 125°C; Operating Temperature Min: -40°C; Packaging: Tape and Reel with Cap; Length: 25.58mm; Width: 9.1mm; Height: 9.1mm; Gender: Male; Number of Pins: 14; Number of Rows: 2; Orientation: Straight; Pitch: 2.54mm; Supplier 1 URL: N/A; Supplier 2 URL: N/A; Supplier 3 URL: N/A; Supplier 1: Mouser; Supplier 1 Part Number: N/A; Supplier 2: Digi-Key; Supplier 2 Part Number: N/A; Supplier 3: thegioiic; Supplier 3 Part Number: N/A; LCSC Part #: N/A
footprint 61231420621
pins: 1, 2, 3, 4, 5, 6, 7, 8, 9, 10, 11, 12, 13, 14

## 61231620621
designator P?  (value not drawn)
WR-BHD Male Box Header, SMT Straight, pitch 2.54mm, 2 row, 16 pin; Manufacturer: Wurth Elektronik; Contact Resistance: 20mOhm; Insulation Resistance: 1000MOhm; Rated Current: 3A; Working Voltage: 250V; Withstanding Voltage: 500V; Manufacturer Part Number: 61231620621; Match Code: WR-BHD; ComponentLink1Description: Datasheet; ComponentLink1URL: https://www.we-online.com/redexpert/spec/61231620621?ad; Mount: Surface Mount; Operating Temperature Max: 125°C; Operating Temperature Min: -40°C; Packaging: Tape and Reel with Cap; Length: 28.12mm; Width: 9.1mm; Height: 9.1mm; Gender: Male; Number of Pins: 16; Number of Rows: 2; Orientation: Straight; Pitch: 2.54mm; Supplier 1 URL: N/A; Supplier 2 URL: N/A; Supplier 3 URL: N/A; Supplier 1: Mouser; Supplier 1 Part Number: N/A; Supplier 2: Digi-Key; Supplier 2 Part Number: N/A; Supplier 3: thegioiic; Supplier 3 Part Number: N/A; LCSC Part #: N/A
footprint 61231620621
pins: 1, 2, 3, 4, 5, 6, 7, 8, 9, 10, 11, 12, 13, 14, 15, 16

## 61232020621
designator P?  (value not drawn)
WR-BHD Male Box Header, SMT Straight, pitch 2.54mm, 2 row, 20 pin; Manufacturer: Wurth Elektronik; Contact Resistance: 20mOhm; Insulation Resistance: 1000MOhm; Rated Current: 3A; Working Voltage: 250V; Withstanding Voltage: 500V; Manufacturer Part Number: 61232020621; Match Code: WR-BHD; ComponentLink1Description: Datasheet; ComponentLink1URL: https://www.we-online.com/redexpert/spec/61232020621?ad; Mount: Surface Mount; Operating Temperature Max: 125°C; Operating Temperature Min: -40°C; Packaging: Tape and Reel with Cap; Length: 33.2mm; Width: 9.1mm; Height: 9.1mm; Gender: Male; Number of Pins: 20; Number of Rows: 2; Orientation: Straight; Pitch: 2.54mm; Supplier 1 URL: N/A; Supplier 2 URL: N/A; Supplier 3 URL: N/A; Supplier 1: Mouser; Supplier 1 Part Number: N/A; Supplier 2: Digi-Key; Supplier 2 Part Number: N/A; Supplier 3: thegioiic; Supplier 3 Part Number: N/A; LCSC Part #: N/A
footprint 61232020621
pins: 1, 2, 3, 4, 5, 6, 7, 8, 9, 10, 11, 12, 13, 14, 15, 16, 17, 18, 19, 20

## 61232420621
designator P?  (value not drawn)
WR-BHD Male Box Header, SMT Straight, pitch 2.54mm, 2 row, 24 pin; Manufacturer: Wurth Elektronik; Contact Resistance: 20mOhm; Insulation Resistance: 1000MOhm; Rated Current: 3A; Working Voltage: 250V; Withstanding Voltage: 500V; Manufacturer Part Number: 61232420621; Match Code: WR-BHD; ComponentLink1Description: Datasheet; ComponentLink1URL: https://www.we-online.com/redexpert/spec/61232420621?ad; Mount: Surface Mount; Operating Temperature Max: 125°C; Operating Temperature Min: -40°C; Packaging: Tape and Reel with Cap; Length: 38.1mm; Width: 9.1mm; Height: 9.1mm; Gender: Male; Number of Pins: 24; Number of Rows: 2; Orientation: Straight; Pitch: 2.54mm; Supplier 1 URL: N/A; Supplier 2 URL: N/A; Supplier 3 URL: N/A; Supplier 1: Mouser; Supplier 1 Part Number: N/A; Supplier 2: Digi-Key; Supplier 2 Part Number: N/A; Supplier 3: thegioiic; Supplier 3 Part Number: N/A; LCSC Part #: N/A
footprint 61232420621
pins: 1, 2, 3, 4, 5, 6, 7, 8, 9, 10, 11, 12, 13, 14, 15, 16, 17, 18, 19, 20, 21, 22, 23, 24

## 61232620621
designator P?  (value not drawn)
WR-BHD Male Box Header, SMT Straight, pitch 2.54mm, 2 row, 26 pin; Manufacturer: Wurth Elektronik; Contact Resistance: 20mOhm; Insulation Resistance: 1000MOhm; Rated Current: 3A; Working Voltage: 250V; Withstanding Voltage: 500V; Manufacturer Part Number: 61232620621; Match Code: WR-BHD; ComponentLink1Description: Datasheet; ComponentLink1URL: https://www.we-online.com/redexpert/spec/61232620621?ad; Mount: Surface Mount; Operating Temperature Max: 125°C; Operating Temperature Min: -40°C; Packaging: Tape and Reel with Cap; Length: 40.82mm; Width: 9.1mm; Height: 9.1mm; Gender: Male; Number of Pins: 26; Number of Rows: 2; Orientation: Straight; Pitch: 2.54mm; Supplier 1 URL: N/A; Supplier 2 URL: N/A; Supplier 3 URL: N/A; Supplier 1: Mouser; Supplier 1 Part Number: N/A; Supplier 2: Digi-Key; Supplier 2 Part Number: N/A; Supplier 3: thegioiic; Supplier 3 Part Number: N/A; LCSC Part #: N/A
footprint 61232620621
pins: 1, 2, 3, 4, 5, 6, 7, 8, 9, 10, 11, 12, 13, 14, 15, 16, 17, 18, 19, 20, 21, 22, 23, 24, 25, 26

## 61233420621
designator P?  (value not drawn)
WR-BHD Male Box Header, SMT Straight, pitch 2.54mm, 2 row, 34 pin; Manufacturer: Wurth Elektronik; Contact Resistance: 20mOhm; Insulation Resistance: 1000MOhm; Rated Current: 3A; Working Voltage: 250V; Withstanding Voltage: 500V; Manufacturer Part Number: 61233420621; Match Code: WR-BHD; ComponentLink1Description: Datasheet; ComponentLink1URL: https://www.we-online.com/redexpert/spec/61233420621?ad; Mount: Surface Mount; Operating Temperature Max: 125°C; Operating Temperature Min: -40°C; Packaging: Tape and Reel with Cap; Length: 50.98mm; Width: 9.1mm; Height: 9.1mm; Gender: Male; Number of Pins: 34; Number of Rows: 2; Orientation: Straight; Pitch: 2.54mm; Supplier 1 URL: N/A; Supplier 2 URL: N/A; Supplier 3 URL: N/A; Supplier 1: Mouser; Supplier 1 Part Number: N/A; Supplier 2: Digi-Key; Supplier 2 Part Number: N/A; Supplier 3: thegioiic; Supplier 3 Part Number: N/A; LCSC Part #: N/A
footprint 61233420621
pins: 1, 2, 3, 4, 5, 6, 7, 8, 9, 10, 11, 12, 13, 14, 15, 16, 17, 18, 19, 20, 21, 22, 23, 24, 25, 26, 27, 28, 29, 30, 31, 32, 33, 34

## 61234020621
designator P?  (value not drawn)
WR-BHD Male Box Header, SMT Straight, pitch 2.54mm, 2 row, 40 pin; Manufacturer: Wurth Elektronik; Contact Resistance: 20mOhm; Insulation Resistance: 1000MOhm; Rated Current: 3A; Working Voltage: 250V; Withstanding Voltage: 500V; Manufacturer Part Number: 61234020621; Match Code: WR-BHD; ComponentLink1Description: Datasheet; ComponentLink1URL: https://www.we-online.com/redexpert/spec/61234020621?ad; Mount: Surface Mount; Operating Temperature Max: 125°C; Operating Temperature Min: -40°C; Packaging: Tape and Reel with Cap; Length: 58.6mm; Width: 9.1mm; Height: 9.1mm; Gender: Male; Number of Pins: 40; Number of Rows: 2; Orientation: Straight; Pitch: 2.54mm; Supplier 1 URL: N/A; Supplier 2 URL: N/A; Supplier 3 URL: N/A; Supplier 1: Mouser; Supplier 1 Part Number: N/A; Supplier 2: Digi-Key; Supplier 2 Part Number: N/A; Supplier 3: thegioiic; Supplier 3 Part Number: N/A; LCSC Part #: N/A
footprint 61234020621
pins: 1, 2, 3, 4, 5, 6, 7, 8, 9, 10, 11, 12, 13, 14, 15, 16, 17, 18, 19, 20, 21, 22, 23, 24, 25, 26, 27, 28, 29, 30, 31, 32, 33, 34, 35, 36, 37, 38, 39, 40

## 62501021621
designator P?  (value not drawn)
WR-BHD Male Box Header, THT Straight, pitch 2mm, 2 row, 10 pin; Manufacturer: Wurth Elektronik; Contact Resistance: 20mOhm; Insulation Resistance: 1000MOhm; Rated Current: 2A; Working Voltage: 250V; Withstanding Voltage: 500V; Manufacturer Part Number: 62501021621; Match Code: WR-BHD; ComponentLink1Description: Datasheet; ComponentLink1URL: https://www.we-online.com/redexpert/spec/62501021621?ad; Mount: Through Hole; Operating Temperature Max: 125°C; Operating Temperature Min: -40°C; Packaging: Tray; Length: 17.2mm; Width: 5.5mm; Height: 5.6mm; Gender: Male; Number of Pins: 10; Number of Rows: 2; Orientation: Straight; Pitch: 2mm; Supplier 1 URL: N/A; Supplier 2 URL: N/A; Supplier 3 URL: N/A; Supplier 1: Mouser; Supplier 1 Part Number: N/A; Supplier 2: Digi-Key; Supplier 2 Part Number: N/A; Supplier 3: thegioiic; Supplier 3 Part Number: N/A; LCSC Part #: N/A
footprint 62501021621
pins: 1, 2, 3, 4, 5, 6, 7, 8, 9, 10

## 62501021721
designator P?  (value not drawn)
WR-BHD Male Box Header, THT Right Angle, pitch 2mm, 2 row, 10 pin; Manufacturer: Wurth Elektronik; Contact Resistance: 20mOhm; Insulation Resistance: 1000MOhm; Rated Current: 2A; Working Voltage: 250V; Withstanding Voltage: 500V; Manufacturer Part Number: 62501021721; Match Code: WR-BHD; ComponentLink1Description: Datasheet; ComponentLink1URL: https://www.we-online.com/redexpert/spec/62501021721?ad; Mount: Through Hole; Operating Temperature Max: 105°C; Operating Temperature Min: -40°C; Packaging: Tray; Length: 17.25mm; Width: 8.45mm; Height: 5.5mm; Gender: Male; Number of Pins: 10; Number of Rows: 2; Orientation: Right Angle; Pitch: 2mm; Supplier 1 URL: N/A; Supplier 2 URL: N/A; Supplier 3 URL: N/A; Supplier 1: Mouser; Supplier 1 Part Number: N/A; Supplier 2: Digi-Key; Supplier 2 Part Number: N/A; Supplier 3: thegioiic; Supplier 3 Part Number: N/A; LCSC Part #: N/A
footprint 62501021721
pins: 1, 2, 3, 4, 5, 6, 7, 8, 9, 10

## 62501022021
designator P?  (value not drawn)
WR-BHD Male Box Header, THT Straight, pitch 2mm, 2 row, 10 pin; Manufacturer: Wurth Elektronik; Contact Resistance: 20mOhm; Insulation Resistance: 1000MOhm; Rated Current: 2A; Working Voltage: 250V; Withstanding Voltage: 500V; Manufacturer Part Number: 62501022021; Match Code: WR-BHD; ComponentLink1Description: Datasheet; ComponentLink1URL: https://www.we-online.com/redexpert/spec/62501022021?ad; Mount: Through Hole; Operating Temperature Max: 105°C; Operating Temperature Min: -40°C; Packaging: Tray; Length: 25.7mm; Width: 6mm; Height: 16.85mm; Gender: Male; Number of Pins: 10; Number of Rows: 2; Orientation: Straight; Pitch: 2mm; Supplier 1 URL: N/A; Supplier 2 URL: N/A; Supplier 3 URL: N/A; Supplier 1: Mouser; Supplier 1 Part Number: N/A; Supplier 2: Digi-Key; Supplier 2 Part Number: N/A; Supplier 3: thegioiic; Supplier 3 Part Number: N/A; LCSC Part #: N/A
footprint 62501022021
pins: 1, 2, 3, 4, 5, 6, 7, 8, 9, 10

## 62501022121
designator P?  (value not drawn)
WR-BHD Male Box Header, THT Right Angle, pitch 2mm, 2 row, 10 pin; Manufacturer: Wurth Elektronik; Contact Resistance: 20mOhm; Insulation Resistance: 1000MOhm; Rated Current: 2A; Working Voltage: 250V; Withstanding Voltage: 500V; Manufacturer Part Number: 62501022121; Match Code: WR-BHD; ComponentLink1Description: Datasheet; ComponentLink1URL: https://www.we-online.com/redexpert/spec/62501022121?ad; Mount: Through Hole; Operating Temperature Max: 125°C; Operating Temperature Min: -40°C; Packaging: Tray; Length: 25.7mm; Width: 16.85mm; Height: 6mm; Gender: Male; Number of Pins: 10; Number of Rows: 2; Orientation: Right Angle; Pitch: 2mm; Supplier 1 URL: N/A; Supplier 2 URL: N/A; Supplier 3 URL: N/A; Supplier 1: Mouser; Supplier 1 Part Number: N/A; Supplier 2: Digi-Key; Supplier 2 Part Number: N/A; Supplier 3: thegioiic; Supplier 3 Part Number: N/A; LCSC Part #: N/A
footprint 62501022121
pins: 1, 2, 3, 4, 5, 6, 7, 8, 9, 10

## 62501421621
designator P?  (value not drawn)
WR-BHD Male Box Header, THT Straight, pitch 2mm, 2 row, 14 pin; Manufacturer: Wurth Elektronik; Contact Resistance: 20mOhm; Insulation Resistance: 1000MOhm; Rated Current: 2A; Working Voltage: 250V; Withstanding Voltage: 500V; Manufacturer Part Number: 62501421621; Match Code: WR-BHD; ComponentLink1Description: Datasheet; ComponentLink1URL: https://www.we-online.com/redexpert/spec/62501421621?ad; Mount: Through Hole; Operating Temperature Max: 125°C; Operating Temperature Min: -40°C; Packaging: Tray; Length: 21.2mm; Width: 5.5mm; Height: 5.6mm; Gender: Male; Number of Pins: 14; Number of Rows: 2; Orientation: Straight; Pitch: 2mm; Supplier 1 URL: N/A; Supplier 2 URL: N/A; Supplier 3 URL: N/A; Supplier 1: Mouser; Supplier 1 Part Number: N/A; Supplier 2: Digi-Key; Supplier 2 Part Number: N/A; Supplier 3: thegioiic; Supplier 3 Part Number: N/A; LCSC Part #: N/A
footprint 62501421621
pins: 1, 2, 3, 4, 5, 6, 7, 8, 9, 10, 11, 12, 13, 14

## 62501421721
designator P?  (value not drawn)
WR-BHD Male Box Header, THT Right Angle, pitch 2mm, 2 row, 14 pin; Manufacturer: Wurth Elektronik; Contact Resistance: 20mOhm; Insulation Resistance: 1000MOhm; Rated Current: 2A; Working Voltage: 250V; Withstanding Voltage: 500V; Manufacturer Part Number: 62501421721; Match Code: WR-BHD; ComponentLink1Description: Datasheet; ComponentLink1URL: https://www.we-online.com/redexpert/spec/62501421721?ad; Mount: Through Hole; Operating Temperature Max: 105°C; Operating Temperature Min: -40°C; Packaging: Tray; Length: 21.25mm; Width: 8.45mm; Height: 5.5mm; Gender: Male; Number of Pins: 14; Number of Rows: 2; Orientation: Right Angle; Pitch: 2mm; Supplier 1 URL: N/A; Supplier 2 URL: N/A; Supplier 3 URL: N/A; Supplier 1: Mouser; Supplier 1 Part Number: N/A; Supplier 2: Digi-Key; Supplier 2 Part Number: N/A; Supplier 3: thegioiic; Supplier 3 Part Number: N/A; LCSC Part #: N/A
footprint 62501421721
pins: 1, 2, 3, 4, 5, 6, 7, 8, 9, 10, 11, 12, 13, 14

## 62501422021
designator P?  (value not drawn)
WR-BHD Male Box Header, THT Straight, pitch 2mm, 2 row, 14 pin; Manufacturer: Wurth Elektronik; Contact Resistance: 20mOhm; Insulation Resistance: 1000MOhm; Rated Current: 2A; Working Voltage: 250V; Withstanding Voltage: 500V; Manufacturer Part Number: 62501422021; Match Code: WR-BHD; ComponentLink1Description: Datasheet; ComponentLink1URL: https://www.we-online.com/redexpert/spec/62501422021?ad; Mount: Through Hole; Operating Temperature Max: 105°C; Operating Temperature Min: -40°C; Packaging: Tray; Length: 29.7mm; Width: 6mm; Height: 16.85mm; Gender: Male; Number of Pins: 14; Number of Rows: 2; Orientation: Straight; Pitch: 2mm; Supplier 1 URL: N/A; Supplier 2 URL: N/A; Supplier 3 URL: N/A; Supplier 1: Mouser; Supplier 1 Part Number: N/A; Supplier 2: Digi-Key; Supplier 2 Part Number: N/A; Supplier 3: thegioiic; Supplier 3 Part Number: N/A; LCSC Part #: N/A
footprint 62501422021
pins: 1, 2, 3, 4, 5, 6, 7, 8, 9, 10, 11, 12, 13, 14

## 62501422121
designator P?  (value not drawn)
WR-BHD Male Box Header, THT Right Angle, pitch 2mm, 2 row, 14 pin; Manufacturer: Wurth Elektronik; Contact Resistance: 20mOhm; Insulation Resistance: 1000MOhm; Rated Current: 2A; Working Voltage: 250V; Withstanding Voltage: 500V; Manufacturer Part Number: 62501422121; Match Code: WR-BHD; ComponentLink1Description: Datasheet; ComponentLink1URL: https://www.we-online.com/redexpert/spec/62501422121?ad; Mount: Through Hole; Operating Temperature Max: 125°C; Operating Temperature Min: -40°C; Packaging: Tray; Length: 29.7mm; Width: 16.85mm; Height: 6mm; Gender: Male; Number of Pins: 14; Number of Rows: 2; Orientation: Right Angle; Pitch: 2mm; Supplier 1 URL: N/A; Supplier 2 URL: N/A; Supplier 3 URL: N/A; Supplier 1: Mouser; Supplier 1 Part Number: N/A; Supplier 2: Digi-Key; Supplier 2 Part Number: N/A; Supplier 3: thegioiic; Supplier 3 Part Number: N/A; LCSC Part #: N/A
footprint 62501422121
pins: 1, 2, 3, 4, 5, 6, 7, 8, 9, 10, 11, 12, 13, 14

## 62501621621
designator P?  (value not drawn)
WR-BHD Male Box Header, THT Straight, pitch 2mm, 2 row, 16 pin; Manufacturer: Wurth Elektronik; Contact Resistance: 20mOhm; Insulation Resistance: 1000MOhm; Rated Current: 2A; Working Voltage: 250V; Withstanding Voltage: 500V; Manufacturer Part Number: 62501621621; Match Code: WR-BHD; ComponentLink1Description: Datasheet; ComponentLink1URL: https://www.we-online.com/redexpert/spec/62501621621?ad; Mount: Through Hole; Operating Temperature Max: 125°C; Operating Temperature Min: -40°C; Packaging: Tray; Length: 23.2mm; Width: 5.5mm; Height: 5.6mm; Gender: Male; Number of Pins: 16; Number of Rows: 2; Orientation: Straight; Pitch: 2mm; Supplier 1 URL: N/A; Supplier 2 URL: N/A; Supplier 3 URL: N/A; Supplier 1: Mouser; Supplier 1 Part Number: N/A; Supplier 2: Digi-Key; Supplier 2 Part Number: N/A; Supplier 3: thegioiic; Supplier 3 Part Number: N/A; LCSC Part #: N/A
footprint 62501621621
pins: 1, 2, 3, 4, 5, 6, 7, 8, 9, 10, 11, 12, 13, 14, 15, 16

## 62501621721
designator P?  (value not drawn)
WR-BHD Male Box Header, THT Right Angle, pitch 2mm, 2 row, 16 pin; Manufacturer: Wurth Elektronik; Contact Resistance: 20mOhm; Insulation Resistance: 1000MOhm; Rated Current: 2A; Working Voltage: 250V; Withstanding Voltage: 500V; Manufacturer Part Number: 62501621721; Match Code: WR-BHD; ComponentLink1Description: Datasheet; ComponentLink1URL: https://www.we-online.com/redexpert/spec/62501621721?ad; Mount: Through Hole; Operating Temperature Max: 105°C; Operating Temperature Min: -40°C; Packaging: Tray; Length: 23.25mm; Width: 8.45mm; Height: 5.5mm; Gender: Male; Number of Pins: 16; Number of Rows: 2; Orientation: Right Angle; Pitch: 2mm; Supplier 1 URL: N/A; Supplier 2 URL: N/A; Supplier 3 URL: N/A; Supplier 1: Mouser; Supplier 1 Part Number: N/A; Supplier 2: Digi-Key; Supplier 2 Part Number: N/A; Supplier 3: thegioiic; Supplier 3 Part Number: N/A; LCSC Part #: N/A
footprint 62501621721
pins: 1, 2, 3, 4, 5, 6, 7, 8, 9, 10, 11, 12, 13, 14, 15, 16

## 62502021621
designator P?  (value not drawn)
WR-BHD Male Box Header, THT Straight, pitch 2mm, 2 row, 20 pin; Manufacturer: Wurth Elektronik; Contact Resistance: 20mOhm; Insulation Resistance: 1000MOhm; Rated Current: 2A; Working Voltage: 250V; Withstanding Voltage: 500V; Manufacturer Part Number: 62502021621; Match Code: WR-BHD; ComponentLink1Description: Datasheet; ComponentLink1URL: https://www.we-online.com/redexpert/spec/62502021621?ad; Mount: Through Hole; Operating Temperature Max: 125°C; Operating Temperature Min: -40°C; Packaging: Tray; Length: 27.2mm; Width: 5.5mm; Height: 5.6mm; Gender: Male; Number of Pins: 20; Number of Rows: 2; Orientation: Straight; Pitch: 2mm; Supplier 1 URL: N/A; Supplier 2 URL: N/A; Supplier 3 URL: N/A; Supplier 1: Mouser; Supplier 1 Part Number: N/A; Supplier 2: Digi-Key; Supplier 2 Part Number: N/A; Supplier 3: thegioiic; Supplier 3 Part Number: N/A; LCSC Part #: N/A
footprint 62502021621
pins: 1, 2, 3, 4, 5, 6, 7, 8, 9, 10, 11, 12, 13, 14, 15, 16, 17, 18, 19, 20